# Altium footprint library do_214ab.PcbLib: 1 footprints
Each footprint in its own frame and in the unit in brackets; x right, y up, seen from the top. Pads: shape width x height; smd on the part's side, far side on the other; paste and mask are expansions set on the pad; w line width, h text height; cw(c..) or ccw(c..) is an arc to the next point about the centre after c.
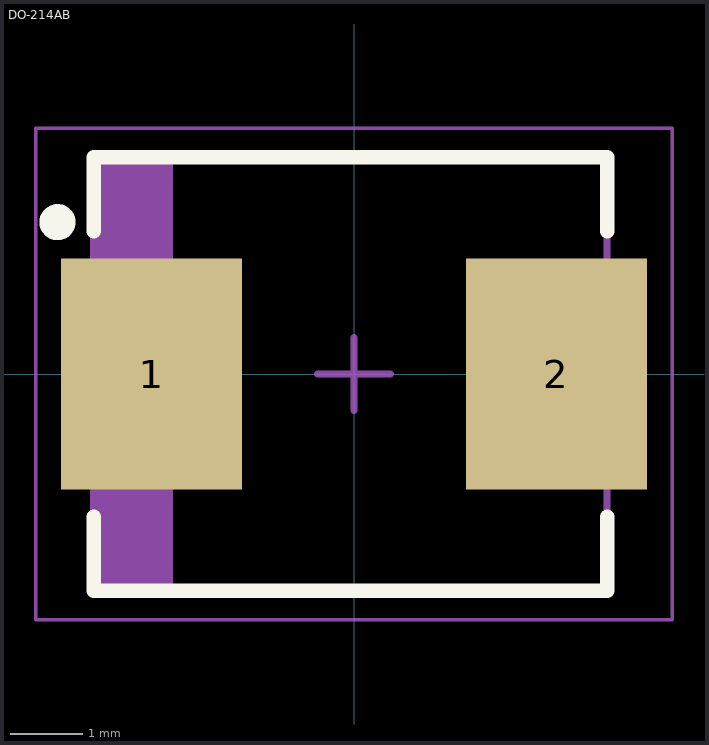
[diagram p0: the footprint, top view; thin cyan lines are the x and y axes]

## DO-214AB [mm] "Molded Diode, 2-Leads, Body 7,94x5,91mm, IPC Medium Density"
height 2.62
pads (2):
  rect 2.5x3.2 smd: 1(-2.8,0) 2(2.8,0)
Top Overlay:
  circle w0.25: c-4.1,2.1 r0.125
  lines w0.2: -3.6,-1.975 -3.6,-3 3.5,-3 3.5,-1.975 ; -3.6,1.975 -3.6,3 3.5,3 3.5,1.975
Top Comment:
  text ".Comment" at 1,3.5 h1.2
Top Designator:
  text ".Designator" at -0.7,3.5 h1.2
Top Component Outline:
  rectangle: -3.593,-3 -2.5,3
  lines w0.1: -3.6,-3 3.5,-3 3.5,3 -3.6,3 -3.6,-3
Top Courtyard (Mech15):
  lines w0.05: -4.4,-3.4 -4.4,3.4 4.4,3.4 4.4,-3.4 -4.4,-3.4
  lines w0.1: -0.5,0 0.5,0 ; 0,-0.5 0,0.5
3D body "DO-214AB.STEP": height 2.59, standoff -0.03, extent -3.95,-2.95 3.95,2.95